# Altium schematic symbol library FLASHMEM_32MB.Schlib: 1 symbol
Pins are listed as number, name and electrical type; pins without a type are passive.

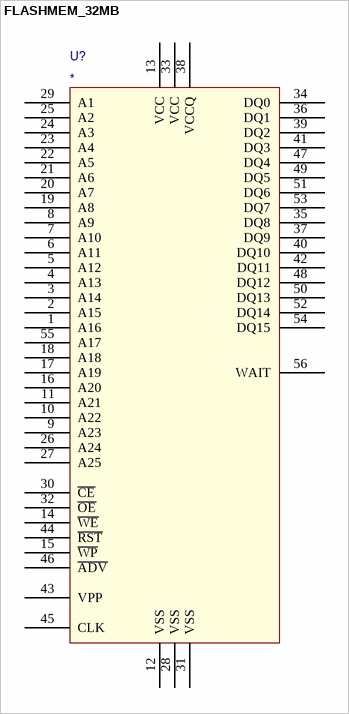
[diagram p0: symbol FLASHMEM_32MB]

## FLASHMEM_32MB
designator U?
pins: 1 A16, 2 A15, 3 A14, 4 A13, 5 A12, 6 A11, 7 A10, 8 A9, 9 A23, 10 A22, 11 A21, 12 VSS, 13 VCC, 14 ~{WE}, 15 ~{WP}, 16 A20, 17 A19, 18 A18, 19 A8, 20 A7, 21 A6, 22 A5, 23 A4, 24 A3, 25 A2, 26 A24, 27 A25, 28 VSS, 29 A1, 30 ~{CE}, 31 VSS, 32 ~{OE}, 33 VCC, 34 DQ0, 35 DQ8, 36 DQ1, 37 DQ9, 38 VCCQ, 39 DQ2, 40 DQ10, 41 DQ3, 42 DQ11, 43 VPP, 44 ~{RST}, 45 CLK, 46 ~{ADV}, 47 DQ4, 48 DQ12, 49 DQ5, 50 DQ13, 51 DQ6, 52 DQ14, 53 DQ7, 54 DQ15, 55 A17, 56 WAIT